# Altium footprint library PcbLib1.PcbLib: 7 footprints
Each footprint in its own frame and in the unit in brackets; x right, y up, seen from the top. Pads: shape width x height; smd on the part's side, far side on the other; paste and mask are expansions set on the pad; w line width, h text height; cw(c..) or ccw(c..) is an arc to the next point about the centre after c.
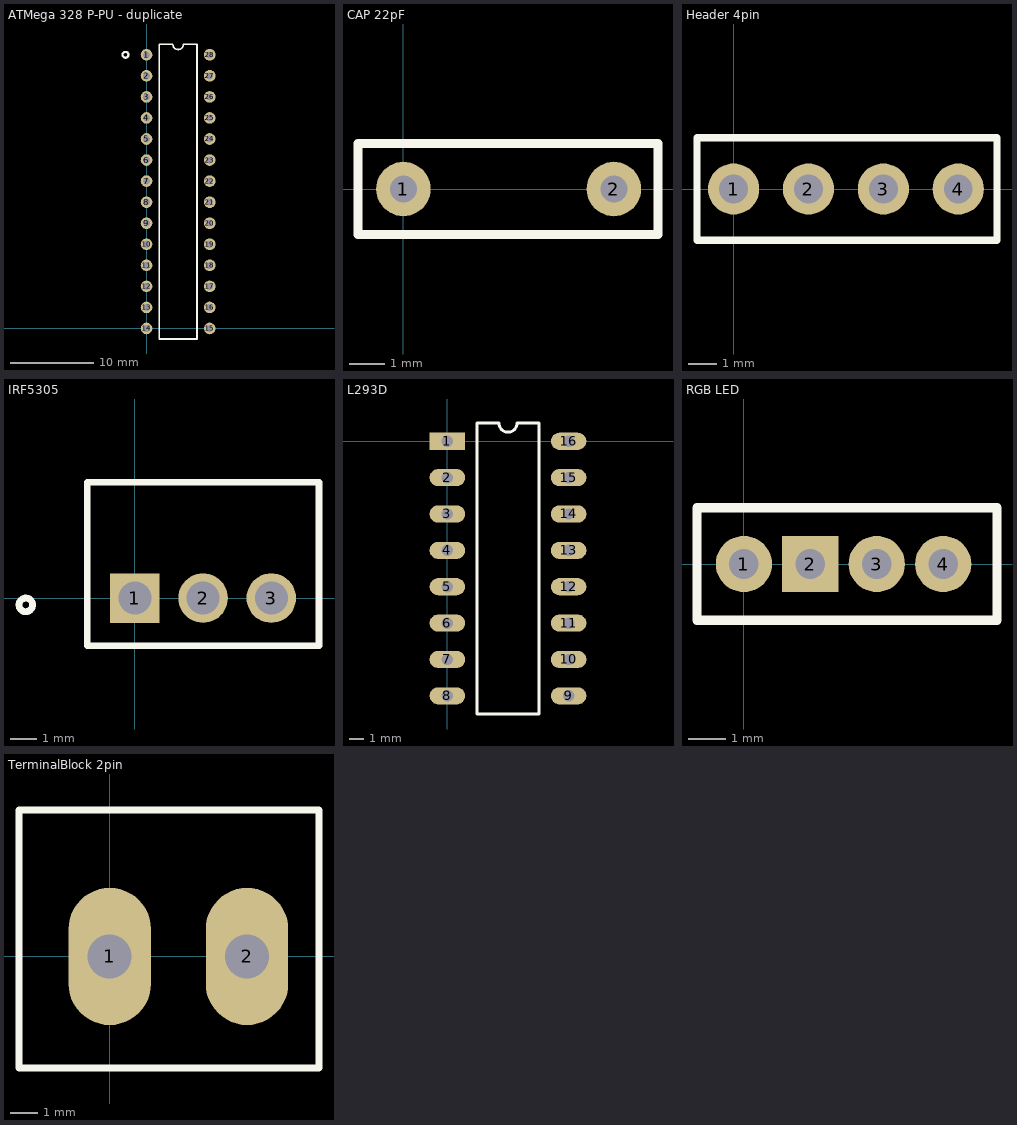
[diagram p0: the footprints below, top view; thin cyan lines are the x and y axes]

## ATMega 328 P-PU - duplicate [mm]
pads (28):
  round 1.4 hole 0.85: 1(0,33.02) 2(0,30.48) 3(0,27.94) 4(0,25.4) 5(0,22.86) 6(0,20.32) 7(0,17.78) 8(0,15.24) 9(0,12.7) 10(0,10.16) 11(0,7.62) 12(0,5.08) 13(0,2.54) 14(0,0) 15(7.62,0) 16(7.62,2.54) 17(7.62,5.08) 18(7.62,7.62) 19(7.62,10.16) 20(7.62,12.7) 21(7.62,15.24) 22(7.62,17.78) 23(7.62,20.32) 24(7.62,22.86) 25(7.62,25.4) 26(7.62,27.94) 27(7.62,30.48) 28(7.62,33.02)
Top Overlay:
  circle w0.254: c-2.54,33.02 r0.359
  lines w0.2: 1.535,-1.27 1.535,34.29 3.175,34.29 ccw(c3.81,34.29) 4.445,34.29 6.085,34.29 6.085,-1.27 1.535,-1.27
3D body "ATMEGA328P-PU--3DModel-STEP-56544.STEP": height 4.57, standoff -3.43, extent -0.14,-0.826 7.76,33.846

## CAP 22pF [mil]
pads (2):
  round 60 hole 30: 1(0,0) 2(231.5,0)
Top Overlay:
  lines w10: -50,-50 280,-50 280,50 -50,50 -50,-50

## Header 4pin [mil]
pads (4):
  round 70 hole 39.37: 1(0,0) 2(102.36,0) 3(204.72,0) 4(307.09,0)
Top Overlay:
  lines w10: -50,-70 360,-70 360,70 -50,70 -50,-70
3D body "SSW-104-02-T-S-LL.stp": height 335, standoff -194, extent -50,-60 370,35

## IRF5305 [mm]
pads (3):
  rect 1.845x1.845 hole 1.23: 1(0,0)
  round 1.845 hole 1.23: 2(2.54,0) 3(5.08,0)
Top Overlay:
  circle w0.254: c-4.064,-0.254 r0.254
  lines w0.254: -1.778,-1.778 6.858,-1.778 6.858,4.318 -1.778,4.318 -1.778,-1.778
3D body "IRF5305PBF.STEP": height 19.3, standoff -10.03, extent -2.667,-1.397 7.747,3.048

## L293D [mm]
pads (16):
  rect 2.5x1.2 hole 0.8: 1(0,0)
  oval 2.5x1.2 hole 0.8: 2(0,-2.55) 3(0,-5.1) 4(0,-7.65) 5(0,-10.2) 6(0,-12.75) 7(0,-15.3) 8(0,-17.85) 9(8.5,-17.85) 10(8.5,-15.3) 11(8.5,-12.75) 12(8.5,-10.2) 13(8.5,-7.65) 14(8.5,-5.1) 15(8.5,-2.55) 16(8.5,0)
Top Overlay:
  lines w0.2: 2.085,-19.125 6.415,-19.125 6.415,1.275 4.887,1.275 cw(c4.25,1.275) 3.612,1.275 2.085,1.275 2.085,-19.125
3D body "L293D--3DModel-STEP-418109.STEP": height 5.1, standoff -3.3, extent -0.556,-18.89 8.684,1.11

## RGB LED [mil]
pads (4):
  round 60 hole 31.5: 1(0,0) 3(141.73,0) 4(212.6,0)
  rect 60x60 hole 31.5: 2(70.87,0)
Top Overlay:
  lines w10: -50,-60 270,-60 270,60 -50,60 -50,-60

## TerminalBlock 2pin [mm]
pads (2):
  oval 3x5 hole 1.6: 1(0,0) 2(5,0)
Top Overlay:
  lines w0.254: -3.302,-4.064 -3.302,5.334 7.62,5.334 7.62,-4.064 -3.302,-4.064
3D body "OSTTA020161--3DModel-STEP-56544.STEP": height 12.6, standoff -3.8, extent -3.141,-3.92 7.459,5.08